# Altium schematic symbol library ATmega16_RTD.SchLib: 22 symbols
Pins are listed as number, name and electrical type; pins without a type are passive.

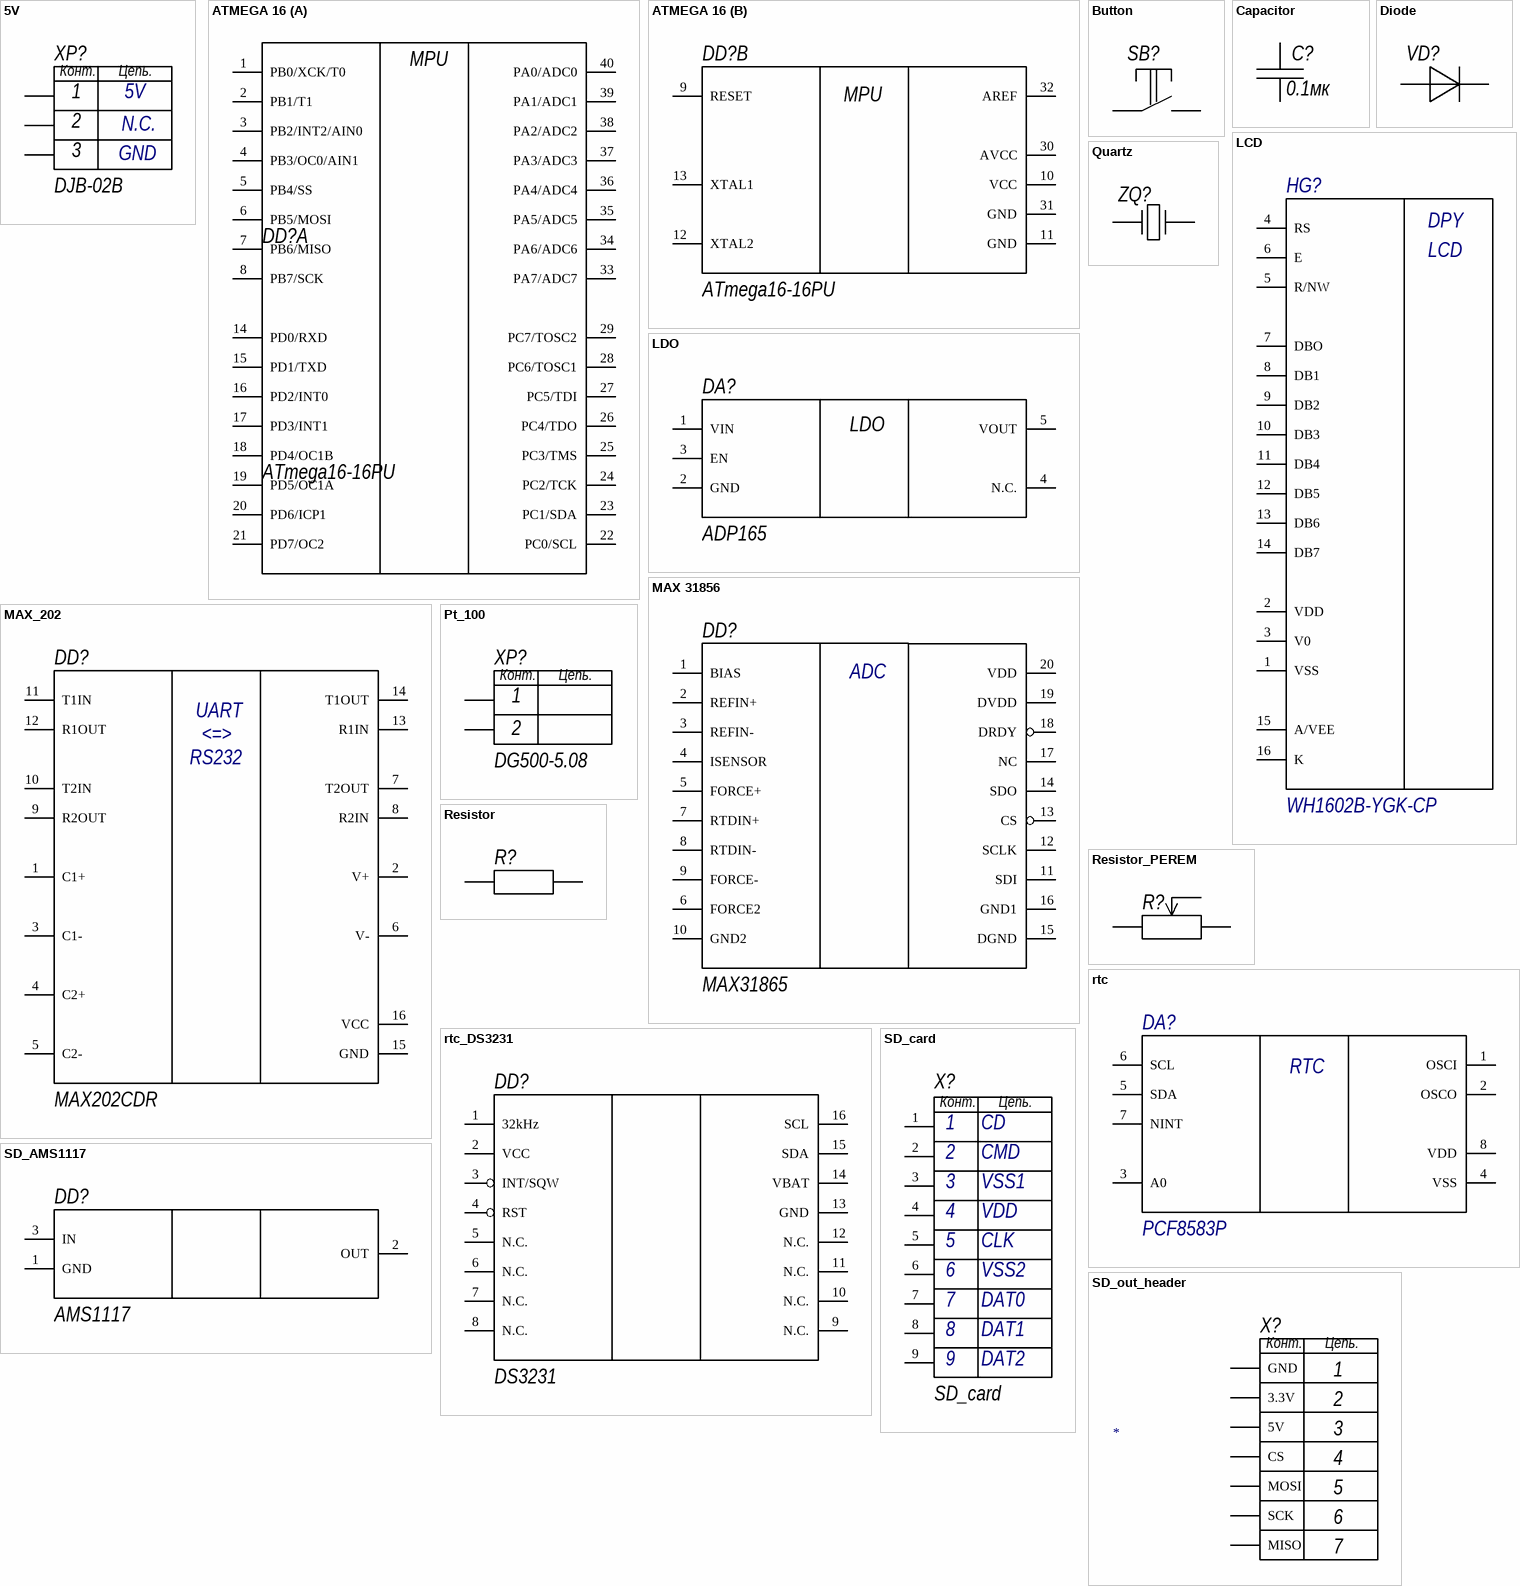
[diagram p0: symbols 5V to SD_out_header]

## 5V
designator XP?, comment DJB-02B
pins: GND, Y124 5V, Y125 NC
text: Конт.; Цепь.; 1; 2; N.C.; 3

## ATMEGA 16
designator DD?, comment ATmega16-16PU
part A pins: 1 PB0/XCK/T0, 2 PB1/T1, 3 PB2/INT2/AIN0, 4 PB3/OC0/AIN1, 5 PB4/SS, 6 PB5/MOSI, 7 PB6/MISO, 8 PB7/SCK, 14 PD0/RXD, 15 PD1/TXD, 16 PD2/INT0, 17 PD3/INT1, 18 PD4/OC1B, 19 PD5/OC1A, 20 PD6/ICP1, 21 PD7/OC2, 22 PC0/SCL, 23 PC1/SDA, 24 PC2/TCK, 25 PC3/TMS, 26 PC4/TDO, 27 PC5/TDI, 28 PC6/TOSC1, 29 PC7/TOSC2, 33 PA7/ADC7, 34 PA6/ADC6, 35 PA5/ADC5, 36 PA4/ADC4, 37 PA3/ADC3, 38 PA2/ADC2, 39 PA1/ADC1, 40 PA0/ADC0
part B pins: 9 RESET, 10 VCC, 11 GND, 12 XTAL2, 13 XTAL1, 30 AVCC, 31 GND, 32 AREF
part A text: MPU
part B text: MPU

## Button
designator SB?, comment 2-1437565-7  (value not drawn)
ValueManufacturer: Te Connectivity; ValueType: Кнопка тактовая; Temp: *; URL: *; Value: *; ValueDescription: *; ValueManufacturerPartNumber: 2-1437565-7
footprint TACT_Switch
pins: 1 EP, 2 EP

## Capacitor
designator C?, comment 0.1мк
ValueType: Конденсатор; Value: *; Tolerance: *; Dielectric: *; Voltage: *; ESR: *; URL: *; Temp: *; Power: *; Case: *; ValueManufacturer: *; ValueManufacturerPartNumber: *; ValueDescription: *
footprint Capacitor
pins: 1, 2

## Diode
designator VD?, comment SS14-E3/61T  (value not drawn)
ValueManufacturer: Vishay; ValueManufacturerPartNumber: SS14-E3/61T
footprint SS14-E3/61T
pins: 1 GND, 2 GND

## LCD
designator HG?, comment WH1602B-YGK-CP
pins: 1 VSS, 2 VDD, 3 V0, 4 RS, 5 R/NW, 6 E, 7 DBO, 8 DB1, 9 DB2, 10 DB3, 11 DB4, 12 DB5, 13 DB6, 14 DB7, 15 A/VEE, 16 K
text: DPY

## LDO
designator DA?, comment ADP165
pins: 1 VIN, 2 GND, 3 EN, 4 N.C., 5 VOUT

## MAX 31856
designator DD?, comment MAX31865
pins: 1 BIAS, 2 REFIN+, 3 REFIN-, 4 ISENSOR, 5 FORCE+, 6 FORCE2, 7 RTDIN+, 8 RTDIN-, 9 FORCE-, 10 GND2, 11 SDI, 12 SCLK, 13 CS, 14 SDO, 15 DGND, 16 GND1, 17 NC, 18 DRDY, 19 DVDD, 20 VDD
text: ADC

## MAX_202
designator DD?, comment MAX202CDR
pins: 1 C1+, 2 V+, 3 C1-, 4 C2+, 5 C2-, 6 V-, 7 T2OUT, 8 R2IN, 9 R2OUT, 10 T2IN, 11 T1IN, 12 R1OUT, 13 R1IN, 14 T1OUT, 15 GND, 16 VCC
text: UART; <=>; RS232

## Pt_100
designator XP?, comment DG500-5.08
pins: 4, 5
text: Конт.; Цепь.; 1; 2

## Quartz
designator ZQ?  (value not drawn)
ValueType: Кварцевый резонатор; Value: *; Tolerance: *; URL: *; Case: *; ValueManufacturer: *; ValueManufacturerParetNumber: *; ValueDescription: *
footprint KX-KT 16.0 MHz
pins: 1 EP, 2 EP

## Resistor
designator R?
ValueType: Резистор; Value: *; Tolerance: *; URL: *; Temp: *; Power: *; Case: *; ValueManufacturer: *; ValueManufacturerParyNumber: *; ValueDescription: *
footprint 0603_RES
pins: 1 GND, 2 GND

## Resistor_PEREM
designator R?
ValueType: Резистор; Value: *; Tolerance: *; URL: *; Temp: *; Power: *; Case: *; ValueManufacturer: *; ValueManufacturerParyNumber: *; ValueDescription: *
footprint 0603_RES
pins: 1 GND, 2 GND, 3

## rtc
designator DA?, comment PCF8583P
pins: 1 OSCI, 2 OSCO, 3 A0, 4 VSS, 5 SDA, 6 SCL, 7 NINT, 8 VDD
text: RTC

## rtc_DS3231
designator DD?, comment DS3231
pins: 1 32kHz, 2 VCC, 3 INT/SQW, 4 RST, 5 N.C., 6 N.C., 7 N.C., 8 N.C., 9 N.C., 10 N.C., 11 N.C., 12 N.C., 13 GND, 14 VBAT, 15 SDA, 16 SCL

## SD_AMS1117
designator DD?, comment AMS1117
pins: 1 GND, 2 OUT, 3 IN

## SD_card
designator X?
pins: 1 CD, 2 CMD, 3 VSS1, 4 VDD, 5 CLK, 6 VSS2, 7 DAT0, 8 DAT1, 9 DAT2
text: Конт.; Цепь.

## SD_out_header
designator X?
pins: 1 GND, 2 3.3V, 3 5V, 4 CS, 5 MOSI, 6 SCK, 7 MISO
text: Конт.; Цепь.

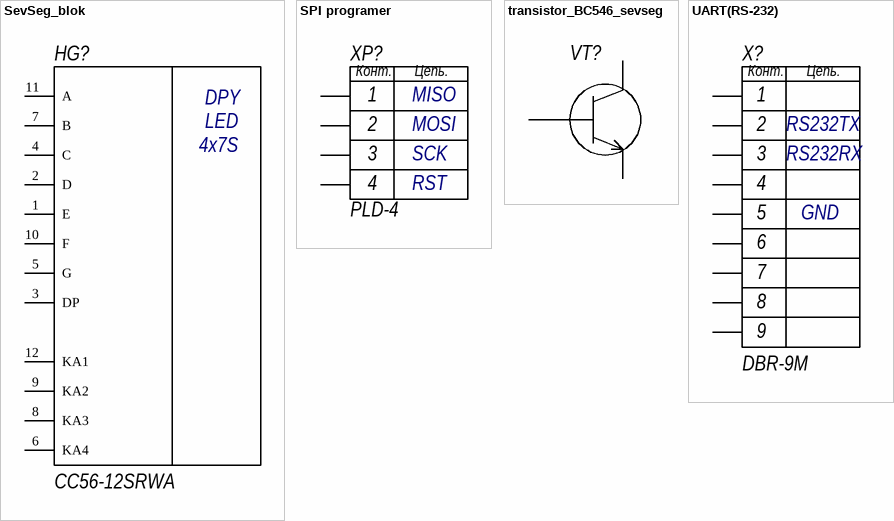
[diagram p1: symbols SevSeg_blok to UART(RS-232)]

## SevSeg_blok
designator HG?, comment CC56-12SRWA
pins: 1 E, 2 D, 3 DP, 4 C, 5 G, 6 KA4, 7 B, 8 KA3, 9 KA2, 10 F, 11 A, 12 KA1
text: DPY; LED; 4x7S

## SPI programer
designator XP?, comment PLD-4
pins: GND, GND, Y124 5V, Y125 NC
text: Конт.; Цепь.; 1; MISO; 2; MOSI; 3; SCK; 4; RST

## transistor_BC546_sevseg
designator VT?  (value not drawn)
pins: Y116, Y117, Y118

## UART(RS-232)
designator X?, comment DBR-9M
pins: 18 GND, 19 GND, 20 GND, 21 GND, 22 GND, 23 GND, 24 GND, 25 GND, 26 GND
text: Конт.; Цепь.; 1; 2; RS232TX; 3; RS232RX; 4; 5; 6; 7; 8; 9